# Altium integrated library Microchip Serial SRAM.IntLib: 47 symbols (part 2 of 2)
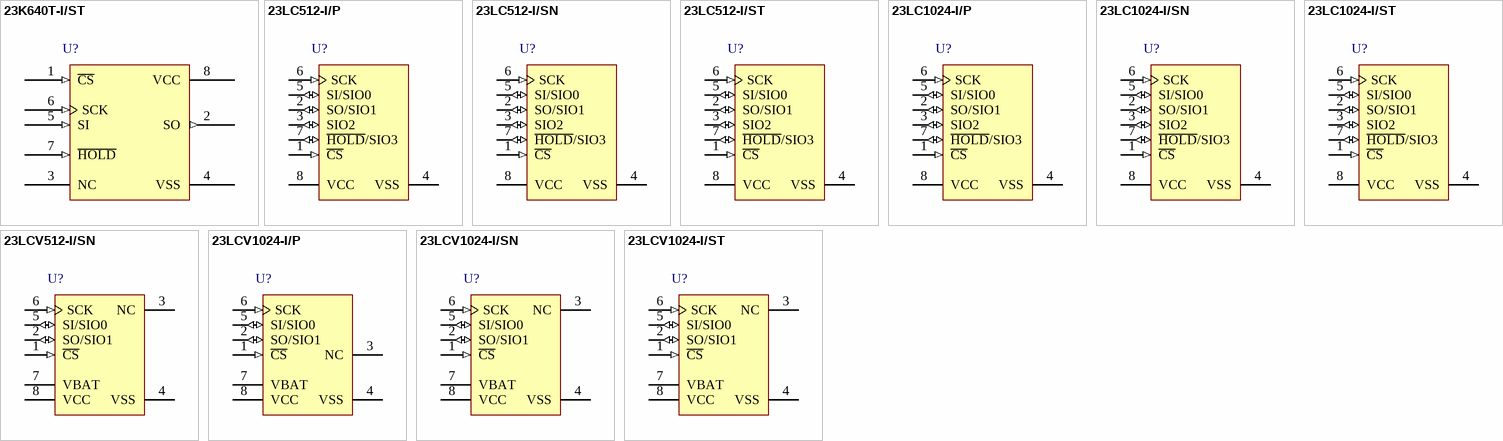
[diagram p2: symbols 23K640T-I/ST to 23LCV1024-I/ST]

## 23LC512-I/P
designator U?
512K bits SPI Serial SRAM with SDI and SQI Interface, 2.5 to 5.5 V, 20 MHz, -40 to 85 degC, 8-pin PDIP (P8), Tube; Manufacturer: Microchip; PartNumber: 23LC512-I/P; DatasheetVersion: Rev. A; PackageVersion: C04-018B; PackageReference: PDIP-P8; PackageDescription: 8-Pin Plastic Dual In-Line, Row Spacing 7.62 mm, 9.5 x 6.6 mm Body, 2.54 mm Pitch; Supplier 1: Digi-Key; Supplier Part Number 1: 23LC512-I/P-ND; Supplier 2: Newark; Supplier Part Number 2: 94T8240; Supplier 3: Mouser; Supplier Part Number 3: N/A; Mounting Technology: Through Hole; ComponentLink1Description: Manufacturer URL; ComponentLink1URL: http://www.microchip.com; ComponentLink2Description: Datasheet; ComponentLink2URL: http://ww1.microchip.com/downloads/en/DeviceDoc/25155A.pdf; ComponentLink3Description: Package Specification; ComponentLink3URL: http://www.microchip.com/stellent/groups/techpub_sg/documents/packagingspec/en012702.pdf; ComponentLink4Description: Product URL; ComponentLink4URL: http://www.microchip.com/23LC512
footprint MCHP-PDIP-P8 (PDIP, 8-Leads, Body 9.5x6.604mm, Pitch 2.54mm)
pins: 1 ~{CS} (in) "Chip Select Input", 2 SO/SIO1 (io) "Serial Output/SDI/SQI Pin", 3 SIO2 (io) "SQI Pin", 4 VSS (power) "Ground", 5 SI/SIO0 (io) "Serial Input/SDI/SQI Pin", 6 SCK (in) "Serial Clock", 7 ~{HOLD}/SIO3 (io) "Hold/SQI Pin", 8 VCC (power) "Power Supply"

## 23LC512-I/SN
designator U?
512K bits SPI Serial SRAM with SDI and SQI Interface, 2.5 to 5.5 V, 20 MHz, -40 to 85 degC, 8-pin SOIC (SN8), Tube; Manufacturer: Microchip; PartNumber: 23LC512-I/SN; DatasheetVersion: Rev. A; PackageVersion: C04-057C; PackageReference: SOIC-SN8; PackageDescription: 8-Lead Plastic Small Outline, 4.9 x 3.9 mm Body, 1.27 mm Pitch; Supplier 1: Digi-Key; Supplier Part Number 1: 23LC512-I/SN-ND; Supplier 2: Newark; Supplier Part Number 2: 94T8241; Supplier 3: Mouser; Supplier Part Number 3: N/A; Mounting Technology: Surface Mount; ComponentLink1Description: Manufacturer URL; ComponentLink1URL: http://www.microchip.com; ComponentLink2Description: Datasheet; ComponentLink2URL: http://ww1.microchip.com/downloads/en/DeviceDoc/25155A.pdf; ComponentLink3Description: Package Specification; ComponentLink3URL: http://www.microchip.com/stellent/groups/techpub_sg/documents/packagingspec/en012702.pdf; ComponentLink4Description: Product URL; ComponentLink4URL: http://www.microchip.com/23LC512
footprint MCHP-SOIC-SN8_N (SOIC, 8-Leads, Body 4.9x3.9mm, Pitch 1.27mm, IPC Medium Density)
footprint MCHP-SOIC-SN8_L (SOIC, 8-Leads, Body 4.9x3.9mm, Pitch 1.27mm, IPC High Density)
footprint MCHP-SOIC-SN8_M (SOIC, 8-Leads, Body 4.9x3.9mm, Pitch 1.27mm, IPC Low Density)
pins: 1 ~{CS} (in) "Chip Select Input", 2 SO/SIO1 (io) "Serial Output/SDI/SQI Pin", 3 SIO2 (io) "SQI Pin", 4 VSS (power) "Ground", 5 SI/SIO0 (io) "Serial Input/SDI/SQI Pin", 6 SCK (in) "Serial Clock", 7 ~{HOLD}/SIO3 (io) "Hold/SQI Pin", 8 VCC (power) "Power Supply"

## 23LC512-I/ST
designator U?
512K bits SPI Serial SRAM with SDI and SQI Interface, 2.5 to 5.5 V, 20 MHz, -40 to 85 degC, 8-pin TSSOP (ST8), Tube; Manufacturer: Microchip; PartNumber: 23LC512-I/ST; DatasheetVersion: Rev. A; PackageVersion: C04-086B; PackageReference: TSSOP-ST8; PackageDescription: 8-Lead Plastic Thin Shrink Small Outline, 3 x 4.4 mm Body, 0.65 mm Pitch; Supplier 1: Digi-Key; Supplier Part Number 1: 23LC512-I/ST-ND; Supplier 2: Newark; Supplier Part Number 2: 94T8242; Supplier 3: Mouser; Supplier Part Number 3: N/A; Mounting Technology: Surface Mount; ComponentLink1Description: Manufacturer URL; ComponentLink1URL: http://www.microchip.com; ComponentLink2Description: Datasheet; ComponentLink2URL: http://ww1.microchip.com/downloads/en/DeviceDoc/25155A.pdf; ComponentLink3Description: Package Specification; ComponentLink3URL: http://www.microchip.com/stellent/groups/techpub_sg/documents/packagingspec/en012702.pdf; ComponentLink4Description: Product URL; ComponentLink4URL: http://www.microchip.com/23LC512
footprint MCHP-TSSOP-ST8_N (SOP, 8-Leads, Body 4.4x3mm, Pitch 0.65mm, IPC Medium Density)
footprint MCHP-TSSOP-ST8_L (SOP, 8-Leads, Body 4.4x3mm, Pitch 0.65mm, IPC High Density)
footprint MCHP-TSSOP-ST8_M (SOP, 8-Leads, Body 4.4x3mm, Pitch 0.65mm, IPC Low Density)
pins: 1 ~{CS} (in) "Chip Select Input", 2 SO/SIO1 (io) "Serial Output/SDI/SQI Pin", 3 SIO2 (io) "SQI Pin", 4 VSS (power) "Ground", 5 SI/SIO0 (io) "Serial Input/SDI/SQI Pin", 6 SCK (in) "Serial Clock", 7 ~{HOLD}/SIO3 (io) "Hold/SQI Pin", 8 VCC (power) "Power Supply"

## 23LC1024-I/P
designator U?
1024K bits SPI Serial SRAM with SDI and SQI Interface, 2.5 to 5.5 V, 20 MHz, -40 to 85 degC, 8-pin PDIP (P8), Tube; Manufacturer: Microchip; PartNumber: 23LC1024-I/P; DatasheetVersion: Rev. A; PackageVersion: C04-018B; PackageReference: PDIP-P8; PackageDescription: 8-Pin Plastic Dual In-Line, Row Spacing 7.62 mm, 9.5 x 6.6 mm Body, 2.54 mm Pitch; Supplier 1: Digi-Key; Supplier Part Number 1: 23LC1024-I/P-ND; Supplier 2: Farnell; Supplier Part Number 2: 2212152; Supplier 3: Newark; Supplier Part Number 3: 94T8230; Supplier 4: Mouser; Supplier Part Number 4: 579-23LC1024-I/P; Mounting Technology: Through Hole; ComponentLink1Description: Manufacturer URL; ComponentLink1URL: http://www.microchip.com; ComponentLink2Description: Datasheet; ComponentLink2URL: http://ww1.microchip.com/downloads/en/DeviceDoc/25142A.pdf; ComponentLink3Description: Package Specification; ComponentLink3URL: http://www.microchip.com/stellent/groups/techpub_sg/documents/packagingspec/en012702.pdf; ComponentLink4Description: Product URL; ComponentLink4URL: http://www.microchip.com/23LC1024
footprint MCHP-PDIP-P8 (PDIP, 8-Leads, Body 9.5x6.604mm, Pitch 2.54mm)
pins: 1 ~{CS} (in) "Chip Select Input", 2 SO/SIO1 (io) "Serial Output/SDI/SQI Pin", 3 SIO2 (io) "SQI Pin", 4 VSS (power) "Ground", 5 SI/SIO0 (io) "Serial Input/SDI/SQI Pin", 6 SCK (in) "Serial Clock", 7 ~{HOLD}/SIO3 (io) "Hold/SQI Pin", 8 VCC (power) "Power Supply"

## 23LC1024-I/SN
designator U?
1024K bits SPI Serial SRAM with SDI and SQI Interface, 2.5 to 5.5 V, 20 MHz, -40 to 85 degC, 8-pin SOIC (SN8), Tube; Manufacturer: Microchip; PartNumber: 23LC1024-I/SN; DatasheetVersion: Rev. A; PackageVersion: C04-057C; PackageReference: SOIC-SN8; PackageDescription: 8-Lead Plastic Small Outline, 4.9 x 3.9 mm Body, 1.27 mm Pitch; Supplier 1: Digi-Key; Supplier Part Number 1: 23LC1024-I/SN-ND; Supplier 2: Farnell; Supplier Part Number 2: 2212150; Supplier 3: Newark; Supplier Part Number 3: 94T8231; Supplier 4: Newark; Supplier Part Number 4: 45W1401; Supplier 5: Mouser; Supplier Part Number 5: 579-23LC1024-I/SN; Mounting Technology: Surface Mount; ComponentLink1Description: Manufacturer URL; ComponentLink1URL: http://www.microchip.com; ComponentLink2Description: Datasheet; ComponentLink2URL: http://ww1.microchip.com/downloads/en/DeviceDoc/25142A.pdf; ComponentLink3Description: Package Specification; ComponentLink3URL: http://www.microchip.com/stellent/groups/techpub_sg/documents/packagingspec/en012702.pdf; ComponentLink4Description: Product URL; ComponentLink4URL: http://www.microchip.com/23LC1024
footprint MCHP-SOIC-SN8_N (SOIC, 8-Leads, Body 4.9x3.9mm, Pitch 1.27mm, IPC Medium Density)
footprint MCHP-SOIC-SN8_L (SOIC, 8-Leads, Body 4.9x3.9mm, Pitch 1.27mm, IPC High Density)
footprint MCHP-SOIC-SN8_M (SOIC, 8-Leads, Body 4.9x3.9mm, Pitch 1.27mm, IPC Low Density)
pins: 1 ~{CS} (in) "Chip Select Input", 2 SO/SIO1 (io) "Serial Output/SDI/SQI Pin", 3 SIO2 (io) "SQI Pin", 4 VSS (power) "Ground", 5 SI/SIO0 (io) "Serial Input/SDI/SQI Pin", 6 SCK (in) "Serial Clock", 7 ~{HOLD}/SIO3 (io) "Hold/SQI Pin", 8 VCC (power) "Power Supply"

## 23LC1024-I/ST
designator U?
1024K bits SPI Serial SRAM with SDI and SQI Interface, 2.5 to 5.5 V, 20 MHz, -40 to 85 degC, 8-pin TSSOP (ST8), Tube; Manufacturer: Microchip; PartNumber: 23LC1024-I/ST; DatasheetVersion: Rev. A; PackageVersion: C04-086B; PackageReference: TSSOP-ST8; PackageDescription: 8-Lead Plastic Thin Shrink Small Outline, 3 x 4.4 mm Body, 0.65 mm Pitch; Supplier 1: Digi-Key; Supplier Part Number 1: 23LC1024-I/ST-ND; Supplier 2: Farnell; Supplier Part Number 2: 2212151; Supplier 3: Newark; Supplier Part Number 3: 94T8232; Supplier 4: Newark; Supplier Part Number 4: 45W1402; Supplier 5: Mouser; Supplier Part Number 5: 579-23LC1024-I/ST; Mounting Technology: Surface Mount; ComponentLink1Description: Manufacturer URL; ComponentLink1URL: http://www.microchip.com; ComponentLink2Description: Datasheet; ComponentLink2URL: http://ww1.microchip.com/downloads/en/DeviceDoc/25142A.pdf; ComponentLink3Description: Package Specification; ComponentLink3URL: http://www.microchip.com/stellent/groups/techpub_sg/documents/packagingspec/en012702.pdf; ComponentLink4Description: Product URL; ComponentLink4URL: http://www.microchip.com/23LC1024
footprint MCHP-TSSOP-ST8_N (SOP, 8-Leads, Body 4.4x3mm, Pitch 0.65mm, IPC Medium Density)
footprint MCHP-TSSOP-ST8_L (SOP, 8-Leads, Body 4.4x3mm, Pitch 0.65mm, IPC High Density)
footprint MCHP-TSSOP-ST8_M (SOP, 8-Leads, Body 4.4x3mm, Pitch 0.65mm, IPC Low Density)
pins: 1 ~{CS} (in) "Chip Select Input", 2 SO/SIO1 (io) "Serial Output/SDI/SQI Pin", 3 SIO2 (io) "SQI Pin", 4 VSS (power) "Ground", 5 SI/SIO0 (io) "Serial Input/SDI/SQI Pin", 6 SCK (in) "Serial Clock", 7 ~{HOLD}/SIO3 (io) "Hold/SQI Pin", 8 VCC (power) "Power Supply"

## 23LCV512-I/SN
designator U?
512K bits SPI Serial SRAM with Battery Backup and SDI Interface, 2.5 to 5.5 V, 20 MHz, -40 to 85 degC, 8-pin SOIC (SN8), Tube; Manufacturer: Microchip; PartNumber: 23LCV512-I/SN; DatasheetVersion: Rev. A; PackageVersion: C04-057C; PackageReference: SOIC-SN8; PackageDescription: 8-Lead Plastic Small Outline, 4.9 x 3.9 mm Body, 1.27 mm Pitch; Supplier 1: Digi-Key; Supplier Part Number 1: 23LCV512-I/SN-ND; Supplier 2: Newark; Supplier Part Number 2: 94T8221; Supplier 3: Mouser; Supplier Part Number 3: 579-23LCV512-I/SN; Mounting Technology: Surface Mount; ComponentLink1Description: Manufacturer URL; ComponentLink1URL: http://www.microchip.com; ComponentLink2Description: Datasheet; ComponentLink2URL: http://ww1.microchip.com/downloads/en/DeviceDoc/25157A.pdf; ComponentLink3Description: Package Specification; ComponentLink3URL: http://www.microchip.com/stellent/groups/techpub_sg/documents/packagingspec/en012702.pdf; ComponentLink4Description: Product URL; ComponentLink4URL: http://www.microchip.com/23LCV512
footprint MCHP-SOIC-SN8_N (SOIC, 8-Leads, Body 4.9x3.9mm, Pitch 1.27mm, IPC Medium Density)
footprint MCHP-SOIC-SN8_L (SOIC, 8-Leads, Body 4.9x3.9mm, Pitch 1.27mm, IPC High Density)
footprint MCHP-SOIC-SN8_M (SOIC, 8-Leads, Body 4.9x3.9mm, Pitch 1.27mm, IPC Low Density)
pins: 1 ~{CS} (in) "Chip Select Input", 2 SO/SIO1 (io) "Serial Output/SDI Pin", 3 NC "No Connect", 4 VSS (power) "Ground", 5 SI/SIO0 (io) "Serial Input/SDI Pin", 6 SCK (in) "Serial Clock Input", 7 VBAT (power) "External Backup Supply Input", 8 VCC (power) "Power Supply"

## 23LCV1024-I/P
designator U?
1024K bits SPI Serial SRAM with Battery Backup and SDI Interface, 2.5 to 5.5 V, 20 MHz, -40 to 85 degC, 8-pin PDIP (P8), Tube; Manufacturer: Microchip; PartNumber: 23LCV1024-I/P; DatasheetVersion: Rev. A; PackageVersion: C04-018B; PackageReference: PDIP-P8; PackageDescription: 8-Pin Plastic Dual In-Line, Row Spacing 7.62 mm, 9.5 x 6.6 mm Body, 2.54 mm Pitch; Supplier 1: Digi-Key; Supplier Part Number 1: 23LCV1024-I/P-ND; Supplier 2: Newark; Supplier Part Number 2: 94T8210; Supplier 3: Mouser; Supplier Part Number 3: 579-23LCV1024-I/P; Mounting Technology: Through Hole; ComponentLink1Description: Manufacturer URL; ComponentLink1URL: http://www.microchip.com; ComponentLink2Description: Datasheet; ComponentLink2URL: http://ww1.microchip.com/downloads/en/DeviceDoc/25156A.pdf; ComponentLink3Description: Package Specification; ComponentLink3URL: http://www.microchip.com/stellent/groups/techpub_sg/documents/packagingspec/en012702.pdf; ComponentLink4Description: Product URL; ComponentLink4URL: http://www.microchip.com/23LCV1024
footprint MCHP-PDIP-P8 (PDIP, 8-Leads, Body 9.5x6.604mm, Pitch 2.54mm)
pins: 1 ~{CS} (in) "Chip Select Input", 2 SO/SIO1 (io) "Serial Output/SDI Pin", 3 NC "No Connect", 4 VSS (power) "Ground", 5 SI/SIO0 (io) "Serial Input/SDI Pin", 6 SCK (in) "Serial Clock Input", 7 VBAT (power) "External Backup Supply Input", 8 VCC (power) "Power Supply"

## 23LCV1024-I/SN
designator U?
1024K bits SPI Serial SRAM with Battery Backup and SDI Interface, 2.5 to 5.5 V, 20 MHz, -40 to 85 degC, 8-pin SOIC (SN8), Tube; Manufacturer: Microchip; PartNumber: 23LCV1024-I/SN; DatasheetVersion: Rev. A; PackageVersion: C04-057C; PackageReference: SOIC-SN8; PackageDescription: 8-Lead Plastic Small Outline, 4.9 x 3.9 mm Body, 1.27 mm Pitch; Supplier 1: Digi-Key; Supplier Part Number 1: 23LCV1024-I/SN-ND; Supplier 2: Newark; Supplier Part Number 2: 94T8211; Supplier 3: Mouser; Supplier Part Number 3: 579-23LCV1024-I/SN; Mounting Technology: Surface Mount; ComponentLink1Description: Manufacturer URL; ComponentLink1URL: http://www.microchip.com; ComponentLink2Description: Datasheet; ComponentLink2URL: http://ww1.microchip.com/downloads/en/DeviceDoc/25156A.pdf; ComponentLink3Description: Package Specification; ComponentLink3URL: http://www.microchip.com/stellent/groups/techpub_sg/documents/packagingspec/en012702.pdf; ComponentLink4Description: Product URL; ComponentLink4URL: http://www.microchip.com/23LCV1024
footprint MCHP-SOIC-SN8_N (SOIC, 8-Leads, Body 4.9x3.9mm, Pitch 1.27mm, IPC Medium Density)
footprint MCHP-SOIC-SN8_L (SOIC, 8-Leads, Body 4.9x3.9mm, Pitch 1.27mm, IPC High Density)
footprint MCHP-SOIC-SN8_M (SOIC, 8-Leads, Body 4.9x3.9mm, Pitch 1.27mm, IPC Low Density)
pins: 1 ~{CS} (in) "Chip Select Input", 2 SO/SIO1 (io) "Serial Output/SDI Pin", 3 NC "No Connect", 4 VSS (power) "Ground", 5 SI/SIO0 (io) "Serial Input/SDI Pin", 6 SCK (in) "Serial Clock Input", 7 VBAT (power) "External Backup Supply Input", 8 VCC (power) "Power Supply"

## 23LCV1024-I/ST
designator U?
1024K bits SPI Serial SRAM with Battery Backup and SDI Interface, 2.5 to 5.5 V, 20 MHz, -40 to 85 degC, 8-pin TSSOP (ST8), Tube; Manufacturer: Microchip; PartNumber: 23LCV1024-I/ST; DatasheetVersion: Rev. A; PackageVersion: C04-086B; PackageReference: TSSOP-ST8; PackageDescription: 8-Lead Plastic Thin Shrink Small Outline, 3 x 4.4 mm Body, 0.65 mm Pitch; Supplier 1: Digi-Key; Supplier Part Number 1: 23LCV1024-I/ST-ND; Supplier 2: Newark; Supplier Part Number 2: 94T8212; Supplier 3: Mouser; Supplier Part Number 3: 579-23LCV1024-I/ST; Mounting Technology: Surface Mount; ComponentLink1Description: Manufacturer URL; ComponentLink1URL: http://www.microchip.com; ComponentLink2Description: Datasheet; ComponentLink2URL: http://ww1.microchip.com/downloads/en/DeviceDoc/25156A.pdf; ComponentLink3Description: Package Specification; ComponentLink3URL: http://www.microchip.com/stellent/groups/techpub_sg/documents/packagingspec/en012702.pdf; ComponentLink4Description: Product URL; ComponentLink4URL: http://www.microchip.com/23LCV1024
footprint MCHP-TSSOP-ST8_N (SOP, 8-Leads, Body 4.4x3mm, Pitch 0.65mm, IPC Medium Density)
footprint MCHP-TSSOP-ST8_L (SOP, 8-Leads, Body 4.4x3mm, Pitch 0.65mm, IPC High Density)
footprint MCHP-TSSOP-ST8_M (SOP, 8-Leads, Body 4.4x3mm, Pitch 0.65mm, IPC Low Density)
pins: 1 ~{CS} (in) "Chip Select Input", 2 SO/SIO1 (io) "Serial Output/SDI Pin", 3 NC "No Connect", 4 VSS (power) "Ground", 5 SI/SIO0 (io) "Serial Input/SDI Pin", 6 SCK (in) "Serial Clock Input", 7 VBAT (power) "External Backup Supply Input", 8 VCC (power) "Power Supply"